# Altium schematic symbol library hc12_433mhz.SCHLIB: 1 symbol
Pins are listed as number, name and electrical type; pins without a type are passive.

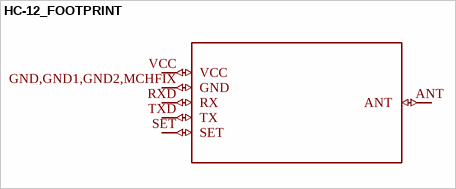
[diagram p0: symbol HC-12_FOOTPRINT]

## HC-12_FOOTPRINT
designator ?, comment HC-12 433MHz module footprint   MCHFIX is for mechanical fix pin which is NC but on this file connected to GND   https://github.com/meendiz/hc-12_si4463/  (value not drawn)
GateName_1: G$1; SymbolName_1: HC-12_FOOTPRINT; LibraryName: hc12_433mhz; DeviceSetName: HC-12_FOOTPRINT; Package: HC-12_FOOTPRINT
footprint HC-12_FOOTPRINT
pins: ANT (io), GND,GND1,GND2,MCHFIX GND (io), RXD RX (io), SET (io), TXD TX (io), VCC (io)